# EAGLE library part MICROMATCH-14_SMD (library robotter_connector)
ref FN : 1565591
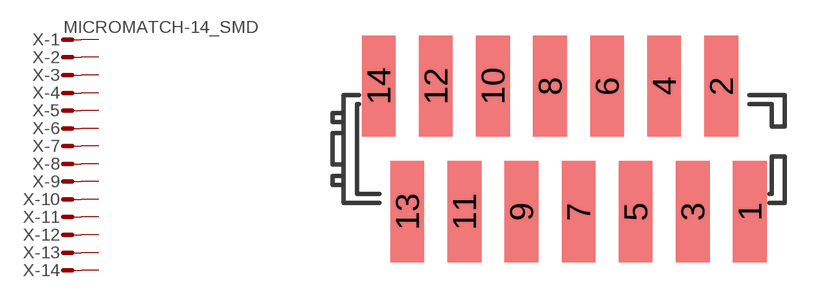
[diagram p4: symbol with the pads of MICROMATCH-14_SMD; footprint MICROMATCH-14_SMD]

Designator prefix X; gates -1=MV -2=M -3=M -4=M -5=M -6=M -7=M -8=M -9=M -10=M -11=M -12=M -13=M -14=M

## MICROMATCH-14_SMD  [MICROMATCH-14_SMD]
1  -1:S  pas
2  -2:S  pas
3  -3:S  pas
4  -4:S  pas
5  -5:S  pas
6  -6:S  pas
7  -7:S  pas
8  -8:S  pas
9  -9:S  pas
10  -10:S  pas
11  -11:S  pas
12  -12:S  pas
13  -13:S  pas
14  -14:S  pas

## Footprint MICROMATCH-14_SMD (pad centres in mm)
smd 1.5 x 4.5: 1 8.255,-2.794; 2 6.985,2.794; 3 5.715,-2.794; 4 4.445,2.794; 5 3.175,-2.794; 6 1.905,2.794; 7 0.635,-2.794; 8 -0.635,2.794; 9 -1.905,-2.794; 10 -3.175,2.794; 11 -4.445,-2.794; 12 -5.715,2.794; 13 -6.985,-2.794; 14 -8.255,2.794